# EAGLE library part PINCON12 (library pincon)
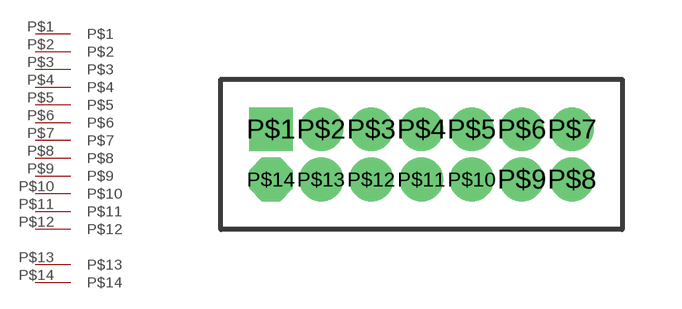
[diagram p0: symbol with the pads of PINCON12; footprint PINCON12]

Designator prefix -

## PINCON12  [PINCON12]
P$1  P$1
P$2  P$2
P$3  P$3
P$4  P$4
P$5  P$5
P$6  P$6
P$7  P$7
P$8  P$8
P$9  P$9
P$10  P$10
P$11  P$11
P$12  P$12
P$13  P$13
P$14  P$14

## Footprint PINCON12 (pad centres in mm)
drill 0.6 square: P$1 -1.27,1.27
drill 0.6: P$2 0,1.27; P$3 1.27,1.27; P$4 2.54,1.27; P$5 3.81,1.27; P$6 5.08,1.27; P$7 6.35,1.27; P$8 6.35,0; P$9 5.08,0; P$10 3.81,0; P$11 2.54,0; P$12 1.27,0; P$13 0,0
drill 0.6 octagon: P$14 -1.27,0